# Altium schematic symbol library 2-Cap_lib.SchLib: 5 symbols
Pins are listed as number, name and electrical type; pins without a type are passive.

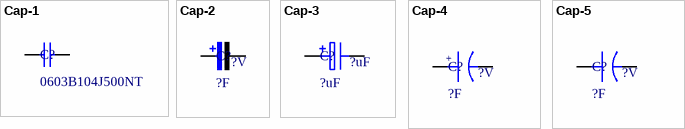
[diagram p0: symbols Cap-1 to Cap-5]

## Cap-1
designator C?, comment 0603B104J500NT
多层片式陶瓷电容器; 厂家: 风华电子; 版本: 2015-V1.0; 价格: 0.01; Value: ?F; 品名: 贴片电容; 精度: 10%
footprint C-RAD-0402
footprint C-RAD-0603
footprint C-RAD-0805
footprint C-RAD-1812
footprint C-RAD-1825
footprint C0402
footprint C0603
footprint C0805
footprint C1206
footprint 1210
footprint 1810
footprint 1812
pins: 1, 2

## Cap-2
designator C?, comment ?F  MAX-Voltage: ?V
贴片钽电容; 厂家: 风华电子; 版本: 2015-V1.0; 价格: 0.01; 品名: 钽电容; 精度: 5%; Value: ?F
footprint CAP-3216_A (钽电容)
footprint CAP-3528_B (钽电容)
footprint CAP-6032_C (钽电容)
footprint CAP-7343_D (钽电容)
footprint 3216
footprint 3528
footprint 6032
footprint 7343
pins: 1, 2

## Cap-3
designator C?, comment ?uF
贴片型电解电容; 厂家: 风华电子; 版本: 2015-V1.0; 价格: 0.01; 品名: 钽电容; 精度: 5%; Value: ?uF
footprint C-RB-S6 (贴片电解)
footprint C-RB-S8 (贴片电解)
footprint C-RB-S10 (贴片电解)
footprint ED4
footprint ED5
footprint ED6_3
footprint ED8
footprint ED10
footprint ED13
pins: 1, 2 E

## Cap-4
designator C?, comment ?F  MAX-Voltage: ?V
焊片型电解电容; 厂家: 风华电子; 版本: 2015-V1.0; 价格: 0.01; 品名: 钽电容; 精度: 5%; Value: ?F
footprint C-RB-8 (直插电解电容)
footprint C-RB-10 (直插电解电容)
footprint C-RB-12 (直插电解电容)
footprint C-RB-18 (直插电解电容)
footprint RB.1/.2
footprint RB.1/.22
pins: 1, 2
text: +

## Cap-5
designator C?, comment ?F  MAX-Voltage: ?V
CBB电解电容; 厂家: 风华电子; 版本: 2015-V1.0; 价格: 0.01; 品名: 钽电容; 精度: 5%; Value: ?F
footprint RAD-0.2-CBB
footprint RAD-0.2-CBB1
footprint C105J63
pins: 1, 2